# EAGLE library part CTS753DRT24 (library resistor-net)
Network Resistor CTS 753 Series Leadless Surface Mount Source: http://www.ctscorp.com/components/Datasheets/753.pdf Distributor: Digi Key
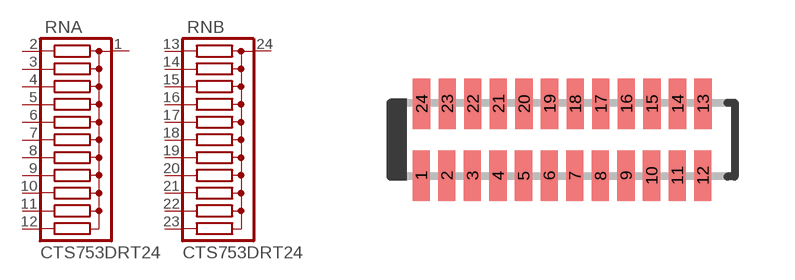
[diagram p15: symbol with the pads of CTS753DRT24; footprint CTS753DRT24]

Designator prefix RN; gates A=RN1X11 B=RN1X11

## CTS753DRT24 (OC_FARNELL: unknown; OC_NEWARK: unknown)  [CTS753DRT24]
1  A:C  pas
2  A:1  pas
3  A:2  pas
4  A:3  pas
5  A:4  pas
6  A:5  pas
7  A:6  pas
8  A:7  pas
9  A:8  pas
10  A:9  pas
11  A:10  pas
12  A:11  pas
13  B:1  pas
14  B:2  pas
15  B:3  pas
16  B:4  pas
17  B:5  pas
18  B:6  pas
19  B:7  pas
20  B:8  pas
21  B:9  pas
22  B:10  pas
23  B:11  pas
24  B:C  pas

## Footprint CTS753DRT24 (pad centres in mm)
Network Resistor Leadless Surface Mount Series 753 Source: http://www.ctscorp.com/components/Datasheets/753.pdf
smd 0.43 x 1.27: 1 -3.525,-0.9; 2 -2.885,-0.9; 3 -2.245,-0.9; 4 -1.605,-0.9; 5 -0.965,-0.9; 6 -0.325,-0.9; 7 0.315,-0.9; 8 0.955,-0.9; 9 1.595,-0.9; 10 2.235,-0.9; 11 2.875,-0.9; 12 3.515,-0.9; 13 3.52,0.9; 14 2.885,0.9; 15 2.245,0.9; 16 1.605,0.9; 17 0.965,0.9; 18 0.325,0.9; 19 -0.315,0.9; 20 -0.955,0.9; 21 -1.595,0.9; 22 -2.235,0.9; 23 -2.875,0.9; 24 -3.515,0.9